# Altium schematic symbol library TMS320F28335GF.SCHLIB: 40 symbols
Pins are listed as number, name and electrical type; pins without a type are passive.

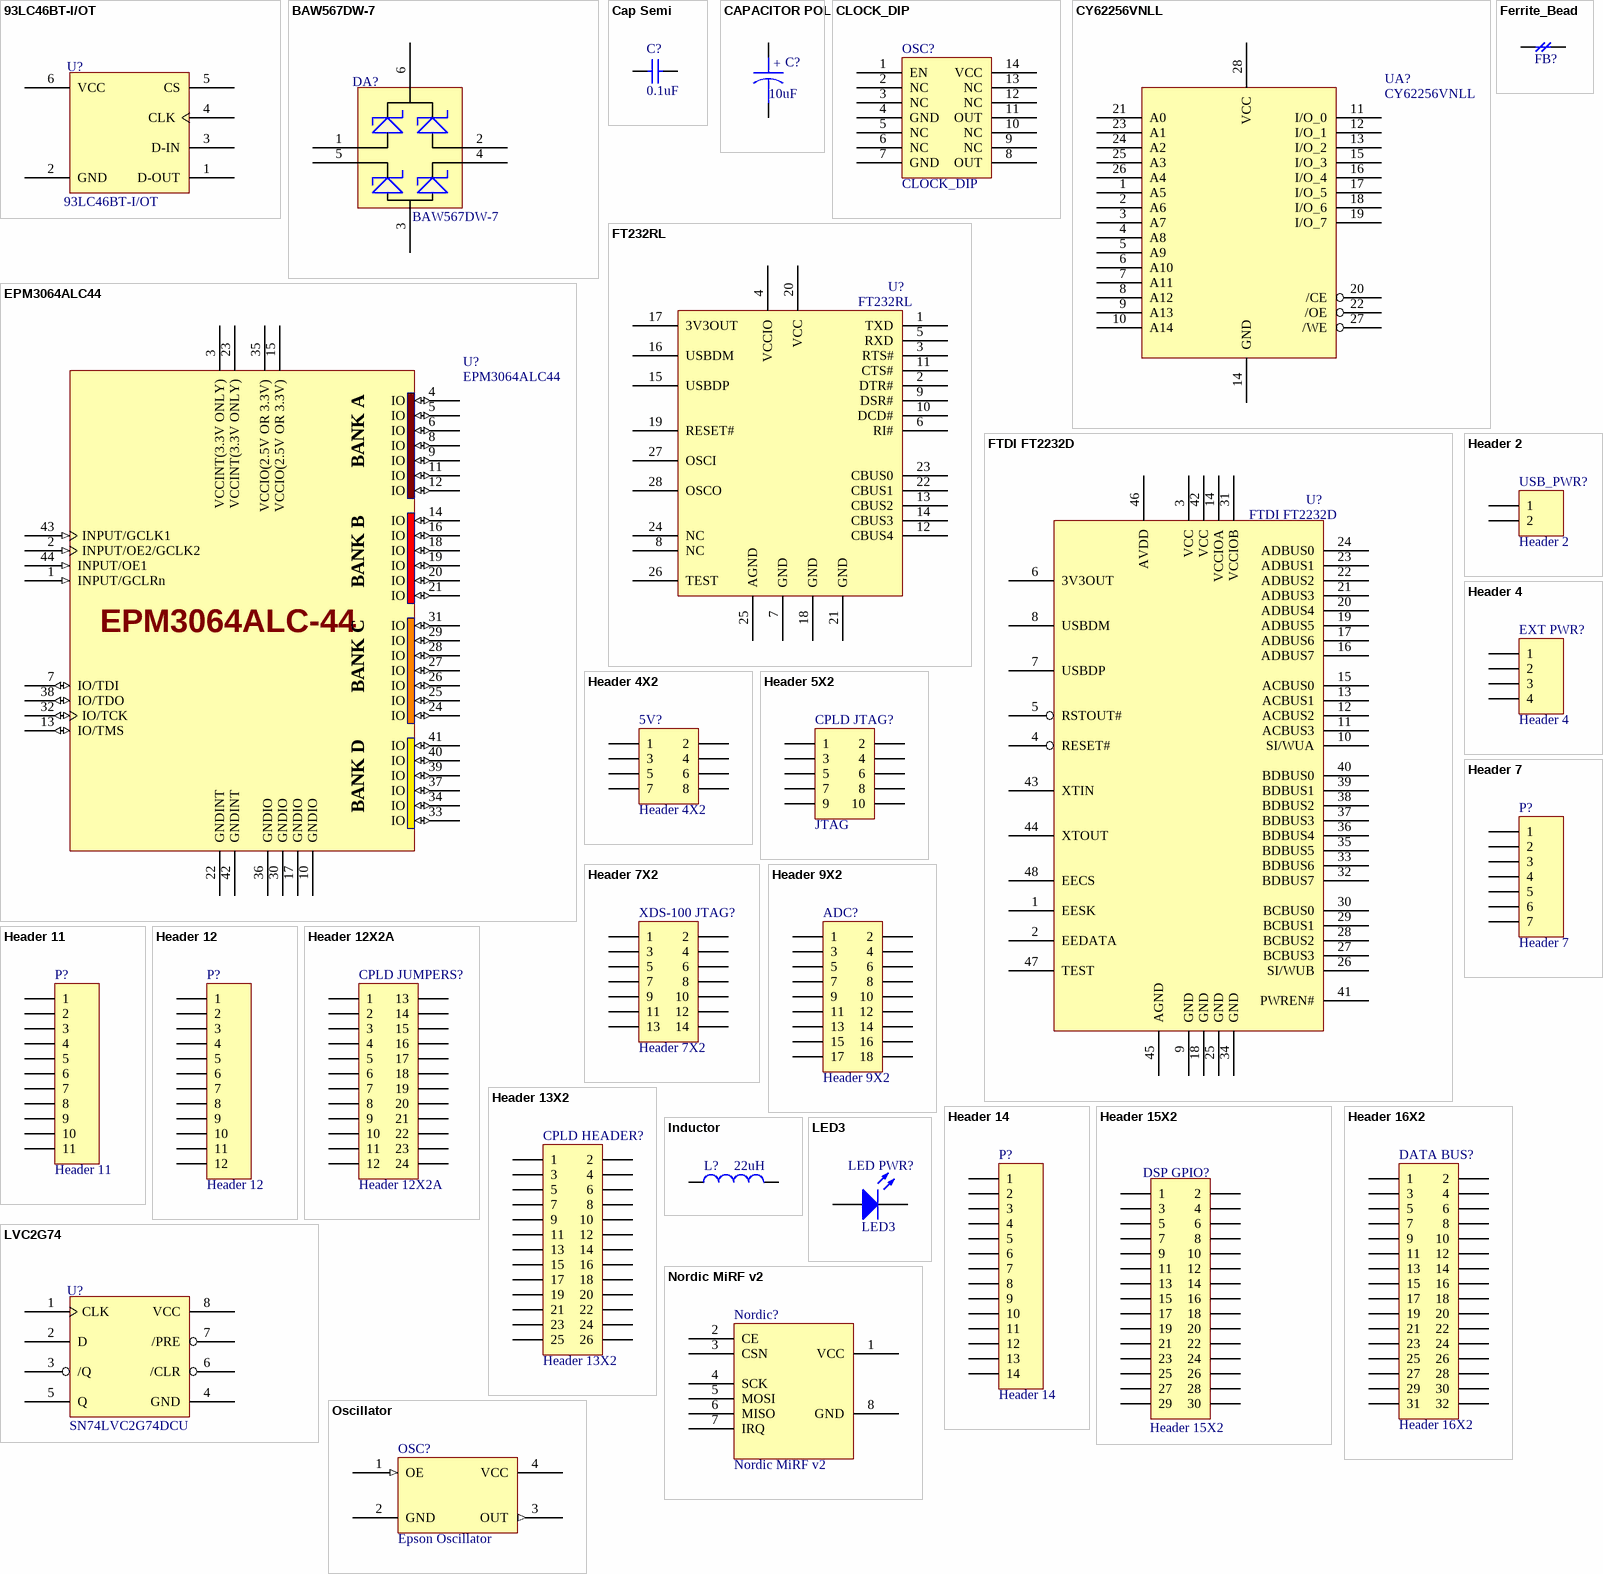
[diagram p0: symbols 93LC46BT-I/OT to Oscillator]

## 93LC46BT-I/OT
designator U?
1K Microwire Compatible Serial EEPROM; Digikey #: 93LC46BT-I/OTCT-ND
footprint 93LC46BT-I/OT (Microchip SOT23-6)
pins: 1 D-OUT, 2 GND, 3 D-IN, 4 CLK, 5 CS, 6 VCC

## BAW567DW-7
designator DA?
QUAD SURFACE MOUNT SWITCHING DIODE ARRAY; Digikey #: BAW567DWDICT-ND
footprint BAW567DW (SOT-363)
pins: 1, 2, 3, 4, 5, 6

## Cap Semi
designator C?  value 0.1uF  (hidden comment: Cap Semi)
Capacitor (Semiconductor SIM Model); Published: 8-Jun-2000; LatestRevisionDate: 17-Jul-2002; LatestRevisionNote: Re-released for DXP Platform.; PackageReference: C1206; Publisher: Altium Limited
footprint C1206 (Chip Capacitor; Body 3.2 x 1.6 mm (LxW typ))
footprint 0805
footprint 1310[0504] (Chip Capacitor; Body 1.2 x 1.0 mm (LxW typ))
footprint 1608[0603] (Chip Capacitor; Body 1.6 x 0.8 mm (LxW typ))
footprint C1210 (Chip Capacitor; Body 3.2 x 2.5 mm (LxW typ))
simulation model CAP (Semiconductor Capacitor)
signal-integrity model Cap Semi
pins: 1, 2

## CAPACITOR POL
designator C?, comment value 10uF  (hidden comment: Pol Cap)
Capacitor Tantalum; Digikey #: 495-2203-1-ND
footprint 3528
pins: 1, 2
text: +

## CLOCK_DIP
designator OSC?
footprint DIP-14
pins: 1 EN, 2 NC, 3 NC, 4 GND, 5 NC, 6 NC, 7 GND, 8 OUT, 9 NC, 10 NC, 11 OUT, 12 NC, 13 NC, 14 VCC

## CY62256VNLL
designator UA?
Cypress SRAM 256KB 3.3V; Digikey #: 428-2001-5-ND; Digikey #: 428-2085-ND
footprint 28-SOIC CY62256VNLL (28-SOIC, Body 17.9x7.5mm (max), Pitch 1.27mm, IPC Low Density)
footprint 28-TSSOP CY62256VNLL (28-TSSOP, Body 8.0x11.8mm (max), Pitch 0.55mm, IPC Low Density)
pins: 1 A5, 2 A6, 3 A7, 4 A8, 5 A9, 6 A10, 7 A11, 8 A12, 9 A13, 10 A14, 11 I/O_0, 12 I/O_1, 13 I/O_2, 14 GND, 15 I/O_3, 16 I/O_4, 17 I/O_5, 18 I/O_6, 19 I/O_7, 20 /CE, 21 A0, 22 /OE, 23 A1, 24 A2, 25 A3, 26 A4, 27 /WE, 28 VCC

## EPM3064ALC44
designator U?
Altera MAX3000A PLCC
footprint PLCC_44
pins: 1 INPUT/GCLRn (in), 2 INPUT/OE2/GCLK2 (in), 3 VCCINT(3.3V ONLY) (power), 4 IO (io), 5 IO (io), 6 IO (io), 7 IO/TDI (io), 8 IO (io), 9 IO (io), 10 GNDIO (power), 11 IO (io), 12 IO (io), 13 IO/TMS (io), 14 IO (io), 15 VCCIO(2.5V OR 3.3V) (power), 16 IO (io), 17 GNDIO (power), 18 IO (io), 19 IO (io), 20 IO (io), 21 IO (io), 22 GNDINT (power), 23 VCCINT(3.3V ONLY) (power), 24 IO (io), 25 IO (io), 26 IO (io), 27 IO (io), 28 IO (io), 29 IO (io), 30 GNDIO (power), 31 IO (io), 32 IO/TCK (io), 33 IO (io), 34 IO (io), 35 VCCIO(2.5V OR 3.3V) (power), 36 GNDIO (power), 37 IO (io), 38 IO/TDO (io), 39 IO (io), 40 IO (io), 41 IO (io), 42 GNDINT (power), 43 INPUT/GCLK1 (in), 44 INPUT/OE1 (in)
text: BANK A; BANK B; EPM3064ALC-44; BANK C; BANK D

## Ferrite_Bead
designator FB?  (value not drawn)
Ferrite Bead; Digikey #: 445-1554-1-ND
footprint CR2012-0805
pins: 1, 2

## FT232RL
designator U?
FTDI FT232RL; Digikey #: 768-1007-1-ND
footprint SSOP28
pins: 1 TXD, 2 DTR#, 3 RTS#, 4 VCCIO, 5 RXD, 6 RI#, 7 GND, 8 NC, 9 DSR#, 10 DCD#, 11 CTS#, 12 CBUS4, 13 CBUS2, 14 CBUS3, 15 USBDP, 16 USBDM, 17 3V3OUT, 18 GND, 19 RESET#, 20 VCC, 21 GND, 22 CBUS1, 23 CBUS0, 24 NC, 25 AGND, 26 TEST, 27 OSCI, 28 OSCO

## FTDI FT2232D
designator U?
Digikey #: 768-1010-1-ND
footprint FTDI FT2232D (LQFP, 48-Leads)
pins: 1 EESK, 2 EEDATA, 3 VCC, 4 RESET#, 5 RSTOUT#, 6 3V3OUT, 7 USBDP, 8 USBDM, 9 GND, 10 SI/WUA, 11 ACBUS3, 12 ACBUS2, 13 ACBUS1, 14 VCCIOA, 15 ACBUS0, 16 ADBUS7, 17 ADBUS6, 18 GND, 19 ADBUS5, 20 ADBUS4, 21 ADBUS3, 22 ADBUS2, 23 ADBUS1, 24 ADBUS0, 25 GND, 26 SI/WUB, 27 BCBUS3, 28 BCBUS2, 29 BCBUS1, 30 BCBUS0, 31 VCCIOB, 32 BDBUS7, 33 BDBUS6, 34 GND, 35 BDBUS5, 36 BDBUS4, 37 BDBUS3, 38 BDBUS2, 39 BDBUS1, 40 BDBUS0, 41 PWREN#, 42 VCC, 43 XTIN, 44 XTOUT, 45 AGND, 46 AVDD, 47 TEST, 48 EECS

## Header 2
designator USB_PWR?
Header, 2-Pin; LatestRevisionDate: 17-Jul-2002; LatestRevisionNote: Re-released for DXP Platform.; Publisher: Altium Limited
footprint HDR1X2 (Connector; Header; 2 Position)
signal-integrity model Connector
pins: 1, 2

## Header 4
designator EXT PWR?
Header, 4-Pin; LatestRevisionDate: 17-Jul-2002; LatestRevisionNote: Re-released for DXP Platform.; Publisher: Altium Limited
footprint HDR1X4 (Connector; Header; 4 Position)
signal-integrity model Connector
pins: 1, 2, 3, 4

## Header 4X2
designator 5V?
Header, 4-Pin, Dual row; LatestRevisionDate: 17-Jul-2002; LatestRevisionNote: Re-released for DXP Platform.; Publisher: Altium Limited
footprint HDR2X4 (Connector; Header; 4x2 Position)
signal-integrity model Connector
pins: 1, 2, 3, 4, 5, 6, 7, 8

## Header 5X2
designator CPLD JTAG?, comment JTAG
Header, 5-Pin, Dual row; Revision: 17-Jul-2002: Re-released for DXP Platform.; Publisher: Altium Limited
footprint HDR2X5 (Connector; Header; 5x2 Position)
signal-integrity model Connector
pins: 1, 2, 3, 4, 5, 6, 7, 8, 9, 10

## Header 7
designator P?
Header, 7-Pin; LatestRevisionDate: 17-Jul-2002; LatestRevisionNote: Re-released for DXP Platform.; Publisher: Altium Limited
footprint HDR1X7 (Connector; Header; 7 Position)
signal-integrity model Connector
pins: 1, 2, 3, 4, 5, 6, 7

## Header 7X2
designator XDS-100 JTAG?
Header, 7-Pin, Dual row; LatestRevisionDate: 17-Jul-2002; LatestRevisionNote: Re-released for DXP Platform.; Publisher: Altium Limited; Digikey #: HRP14H-ND
footprint HDR2X7 (Connector; Header; 7x2 Position)
signal-integrity model Connector
pins: 1, 2, 3, 4, 5, 6, 7, 8, 9, 10, 11, 12, 13, 14

## Header 9X2
designator ADC?
Header, 9-Pin, Dual row; LatestRevisionDate: 17-Jul-2002; LatestRevisionNote: Re-released for DXP Platform.; Publisher: Altium Limited
footprint HDR2X9 (Connector; Header; 9x2 Position)
signal-integrity model Connector
pins: 1, 2, 3, 4, 5, 6, 7, 8, 9, 10, 11, 12, 13, 14, 15, 16, 17, 18

## Header 11
designator P?
Header, 11-Pin; LatestRevisionDate: 17-Jul-2002; LatestRevisionNote: Re-released for DXP Platform.; Publisher: Altium Limited
footprint HDR1X11 (Connector; Header; 11 Position)
signal-integrity model Connector
pins: 1, 2, 3, 4, 5, 6, 7, 8, 9, 10, 11

## Header 12
designator P?
Header, 12-Pin; LatestRevisionDate: 17-Jul-2002; LatestRevisionNote: Re-released for DXP Platform.; Publisher: Altium Limited
footprint HDR1X12 (Connector; Header; 12 Position)
signal-integrity model Connector
pins: 1, 2, 3, 4, 5, 6, 7, 8, 9, 10, 11, 12

## Header 12X2A
designator CPLD JUMPERS?
Header, 12-Pin, Dual row; LatestRevisionDate: 17-Jul-2002; LatestRevisionNote: Re-released for DXP Platform.; Publisher: Altium Limited
footprint HDR2X12_CEN (Connector; Header; 12x2 Position)
signal-integrity model Connector
pins: 1, 2, 3, 4, 5, 6, 7, 8, 9, 10, 11, 12, 13, 14, 15, 16, 17, 18, 19, 20, 21, 22, 23, 24

## Header 13X2
designator CPLD HEADER?
Header, 13-Pin, Dual row; LatestRevisionDate: 17-Jul-2002; LatestRevisionNote: Re-released for DXP Platform.; Publisher: Altium Limited
footprint HDR2X13 (Connector; Header; 13x2 Position)
signal-integrity model Connector
pins: 1, 2, 3, 4, 5, 6, 7, 8, 9, 10, 11, 12, 13, 14, 15, 16, 17, 18, 19, 20, 21, 22, 23, 24, 25, 26

## Header 14
designator P?
Header, 14-Pin; LatestRevisionDate: 17-Jul-2002; LatestRevisionNote: Re-released for DXP Platform.; Publisher: Altium Limited
footprint HDR1X14 (Connector; Header; 14 Position)
signal-integrity model Connector
pins: 1, 2, 3, 4, 5, 6, 7, 8, 9, 10, 11, 12, 13, 14

## Header 15X2
designator DSP GPIO?
Header, 15-Pin, Dual row; LatestRevisionDate: 17-Jul-2002; LatestRevisionNote: Re-released for DXP Platform.; Publisher: Altium Limited
footprint HDR2X15 (Connector; Header; 15x2 Position)
signal-integrity model Connector
pins: 1, 2, 3, 4, 5, 6, 7, 8, 9, 10, 11, 12, 13, 14, 15, 16, 17, 18, 19, 20, 21, 22, 23, 24, 25, 26, 27, 28, 29, 30

## Header 16X2
designator DATA BUS?
Header, 16-Pin, Dual row; LatestRevisionDate: 17-Jul-2002; LatestRevisionNote: Re-released for DXP Platform.; Publisher: Altium Limited
footprint HDR2X16 (Connector; Header; 16x2 Position)
signal-integrity model Connector
pins: 1, 2, 3, 4, 5, 6, 7, 8, 9, 10, 11, 12, 13, 14, 15, 16, 17, 18, 19, 20, 21, 22, 23, 24, 25, 26, 27, 28, 29, 30, 31, 32

## Inductor
designator L?  value 22uH  (hidden comment: Inductor)
Code_IEC: 1005; Published: 8-Jun-2000; LatestRevisionDate: 17-Jul-2002; LatestRevisionNote: Re-released for DXP Platform.; PackageReference: 0402-A; Publisher: Altium Limited; Code_JEITA: 0402; Digikey #: 490-4030-1-ND
footprint 0805
footprint L0603 (Chip Inductor; Body 1.6 x 0.8 mm (LxW typ))
footprint 2012_Chip (2012 Chip; Chip Inductor; Body 2.0 x 1.2 mm (LxW typ))
footprint 2029 (Chip Inductor; Body 2 x 1.2 mm (LxW typ))
footprint 3261 (3216 Chip; Chip Inductor; Body 3.2 x 1.6 mm (LxW typ))
footprint 4564_Chip (4564 Chip; Chip Inductor; Body 4.5 x 6.4 mm (LxW typ))
simulation model INDUCTOR (Inductor)
signal-integrity model Inductor
pins: 1, 2

## LED3
designator LED PWR?
Typical BLUE SiC LED; Published: 8-Jun-2000; LatestRevisionDate: 17-Dec-2003; LatestRevisionNote: PCB Footprint replaced.; DatasheetDocument: 16-Apr-2002; PackageDocument: 16-Apr-2002; PackageReference: 3.5X2.8X1.9; Publisher: Altium Limited
footprint 0805
simulation model LED3 (Diode)
signal-integrity model LED
pins: 1 A, 2 K

## LVC2G74
designator U?, comment SN74LVC2G74DCU
Single Positive-Edge-Triggered D-Type Flip-Flop with Clear and Preset; Digikey #: 296-12755-1-ND
footprint DCU8 (TI Packaging)
pins: 1 CLK, 2 D, 3 /Q, 4 GND, 5 Q, 6 /CLR, 7 /PRE, 8 VCC

## Nordic MiRF v2
designator Nordic?
footprint Nordic MiRF v2
pins: 1 VCC, 2 CE, 3 CSN, 4 SCK, 5 MOSI, 6 MISO, 7 IRQ, 8 GND

## Oscillator
designator OSC?, comment Epson Oscillator
15Mhz Epson Clock; Digikey #: SE2826CT-ND
footprint Oscillator (Epson SG-636PCE)
footprint XTAL_SMT
pins: 1 OE (in), 2 GND (power), 3 OUT (out), 4 VCC (power)

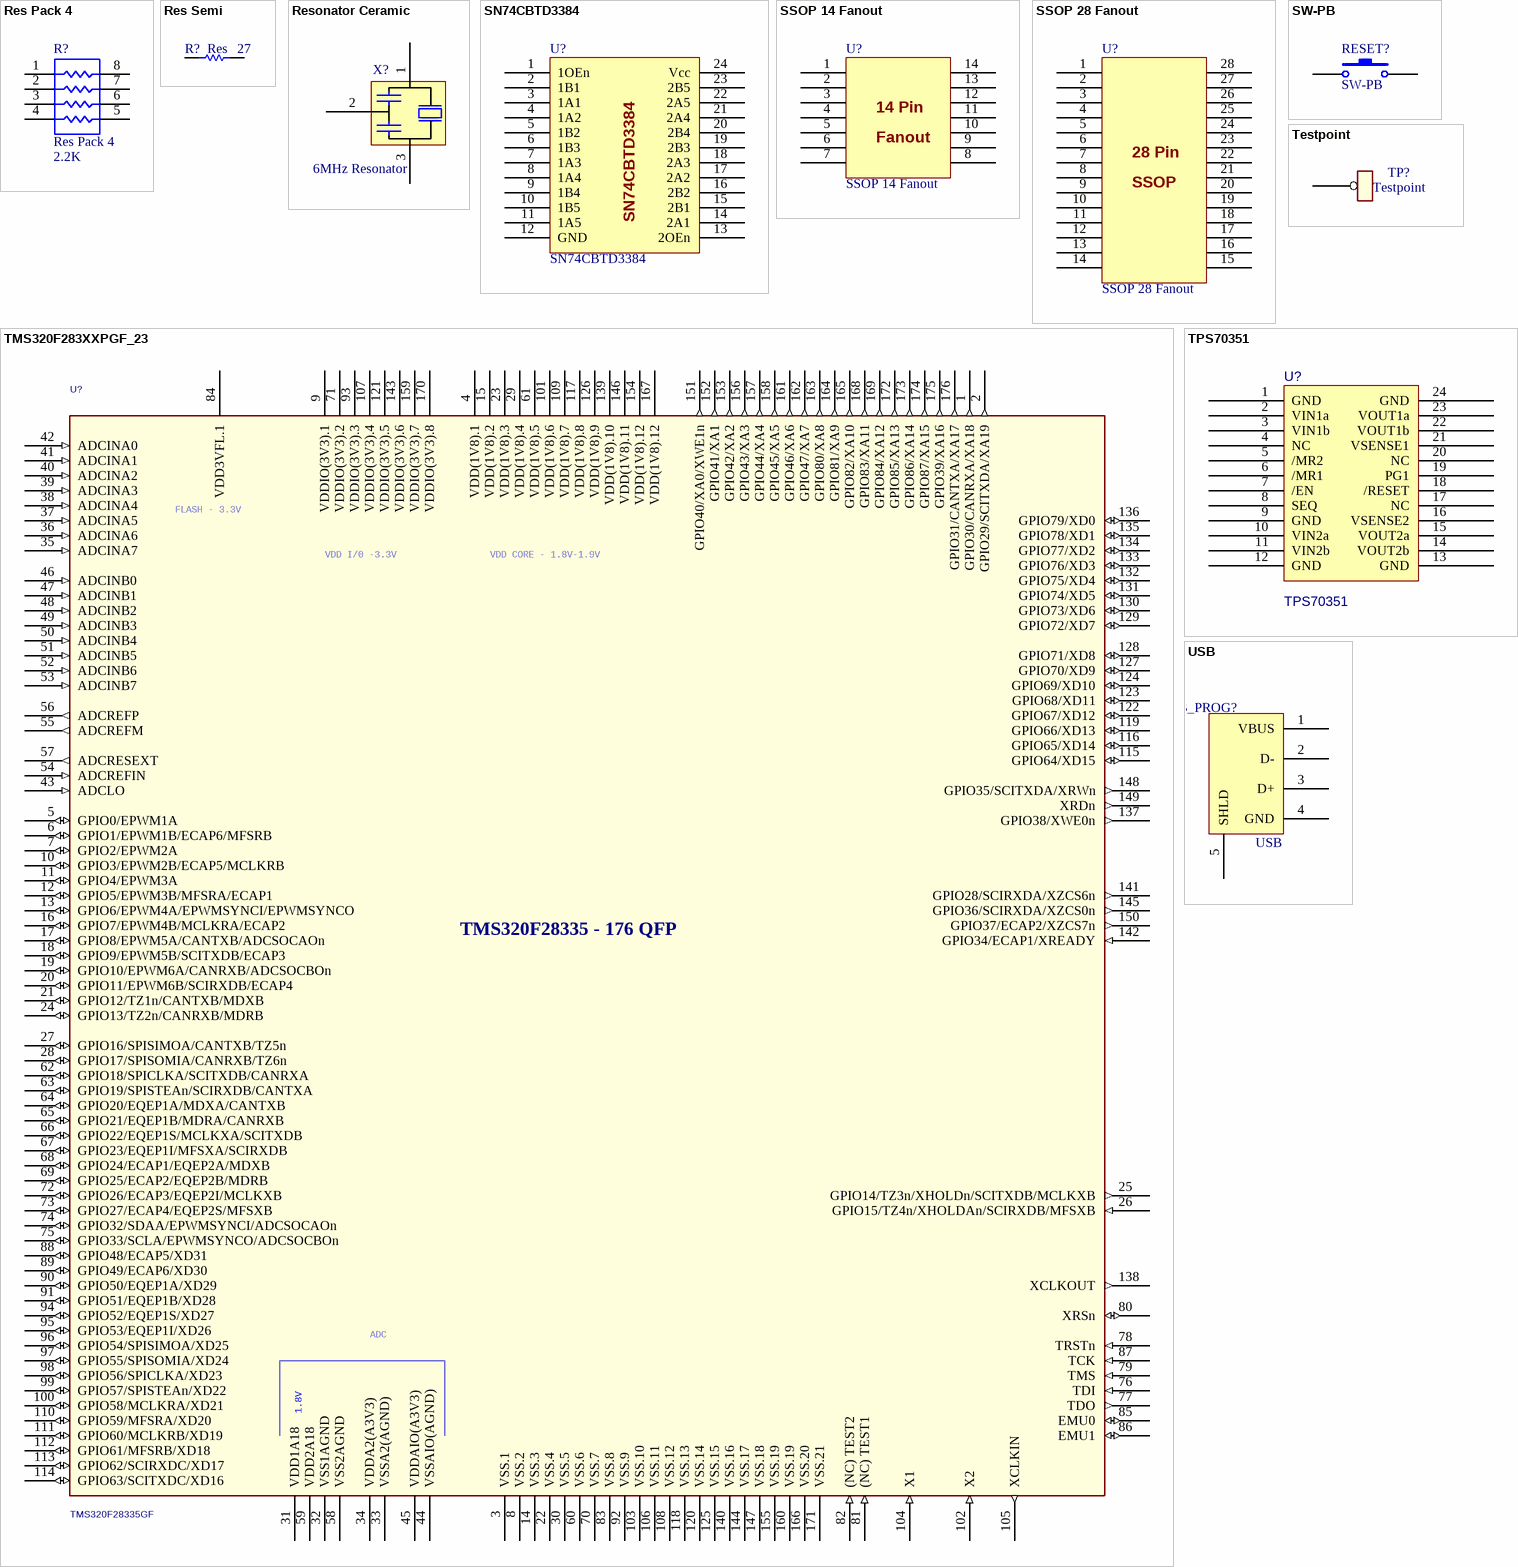
[diagram p1: symbols Res Pack 4 to USB]

## Res Pack 4
designator R?  value 2.2K
4 Isolated Resistor Network; Published: 24-Mar-1999; LatestRevisionDate: 17-Jul-2002; LatestRevisionNote: Re-released for DXP Platform.; PackageReference: SO-16; Publisher: Altium Limited; Digikey #: YC164J-2.2KCT-ND
footprint SO-8 (8 pin Resistor Pack)
simulation model respack_8 (Spice Subcircuit)
pins: 1, 2, 3, 4, 5, 6, 7, 8

## Res Semi
designator R?, comment Res  value 27
Semiconductor Resistor; Published: 8-Jun-2000; LatestRevisionDate: 17-Jul-2002; LatestRevisionNote: Re-released for DXP Platform.; PackageReference: AXIAL-0.5; Publisher: Altium Limited
footprint AXIAL-0.5 (Semiconductor Resistor; 2 Leads)
footprint 0805
footprint 1608[0603] (Chip Resistor; Body 1.6 x 0.8 mm (LxW typ))
footprint 2012[0805] (Chip Resistor; Body 2.0 x 1.3 mm (LxW typ))
footprint 3216[1206] (Chip Resistor; Body 3.2 x 1.6 mm (LxW typ))
simulation model RES (Semiconductor Resistor)
signal-integrity model Res Semi
pins: 1, 2

## Resonator Ceramic
designator X?, comment 6MHz Resonator
Ceramic Resonator; Digikey #: 490-1218-1-ND
footprint 6.00Mhz Resonator (Murate  CSTCR6M00G53Z-R0)
pins: 1, 2 GND, 3

## SN74CBTD3384
designator U?
10-Bit FET Bus Switches With Level Shifting; Digikey #: 296-6482-1-ND
footprint DW-24 (SOIC, 24-Leads)
pins: 1 1OEn, 2 1B1, 3 1A1, 4 1A2, 5 1B2, 6 1B3, 7 1A3, 8 1A4, 9 1B4, 10 1B5, 11 1A5, 12 GND, 13 2OEn, 14 2A1, 15 2B1, 16 2B2, 17 2A2, 18 2A3, 19 2B3, 20 2B4, 21 2A4, 22 2A5, 23 2B5, 24 Vcc

## SSOP 14 Fanout
designator U?
footprint SSOP-14 Fan out (Fan out SSOP 14-pins)
footprint SOIC-14 Fan out (SOIC-14 Fanout)
pins: 1, 2, 3, 4, 5, 6, 7, 8, 9, 10, 11, 12, 13, 14
text: 14 Pin; Fanout

## SSOP 28 Fanout
designator U?
footprint SSOP-28 Fan out (Fan out SSOP 28-pins)
pins: 1, 2, 3, 4, 5, 6, 7, 8, 9, 10, 11, 12, 13, 14, 15, 16, 17, 18, 19, 20, 21, 22, 23, 24, 25, 26, 27, 28
text: 28 Pin; SSOP

## SW-PB
designator RESET?
Switch; Published: 24-Mar-1999; LatestRevisionDate: 17-Jul-2002; LatestRevisionNote: Re-released for DXP Platform.; PackageReference: SPST-2; Publisher: Altium Limited; Digikey #: CKN9119CT-ND
footprint SWITCH_2PAD_SMD
pins: 1, 2

## Testpoint
designator TP?
footprint TestPoint
footprint TestPoint Trough-Hole
pins: 1

## TMS320F283XXPGF_23
designator U?, comment TMS320F28335GF
Texas Instruments F28335; Digikey #: 296-23660-ND
footprint QFP176
footprint intp-ic1-1764-1505_176p
pins: 1 GPIO30/CANRXA/XA18 (out), 2 GPIO29/SCITXDA/XA19 (out), 3 VSS.1 (power), 4 VDD(1V8).1 (power), 5 GPIO0/EPWM1A (io), 6 GPIO1/EPWM1B/ECAP6/MFSRB (io), 7 GPIO2/EPWM2A (io), 8 VSS.2 (power), 9 VDDIO(3V3).1 (power), 10 GPIO3/EPWM2B/ECAP5/MCLKRB (io), 11 GPIO4/EPWM3A (io), 12 GPIO5/EPWM3B/MFSRA/ECAP1 (io), 13 GPIO6/EPWM4A/EPWMSYNCI/EPWMSYNCO (io), 14 VSS.3 (power), 15 VDD(1V8).2 (power), 16 GPIO7/EPWM4B/MCLKRA/ECAP2 (io), 17 GPIO8/EPWM5A/CANTXB/ADCSOCAOn (io), 18 GPIO9/EPWM5B/SCITXDB/ECAP3 (io), 19 GPIO10/EPWM6A/CANRXB/ADCSOCBOn (io), 20 GPIO11/EPWM6B/SCIRXDB/ECAP4 (io), 21 GPIO12/TZ1n/CANTXB/MDXB (io), 22 VSS.4 (power), 23 VDD(1V8).3 (power), 24 GPIO13/TZ2n/CANRXB/MDRB (io), 25 GPIO14/TZ3n/XHOLDn/SCITXDB/MCLKXB (out), 26 GPIO15/TZ4n/XHOLDAn/SCIRXDB/MFSXB (in), 27 GPIO16/SPISIMOA/CANTXB/TZ5n (io), 28 GPIO17/SPISOMIA/CANRXB/TZ6n (io), 29 VDD(1V8).4 (power), 30 VSS.5 (power), 31 VDD1A18 (power), 32 VSS1AGND (power), 33 VSSA2(AGND) (power), 34 VDDA2(A3V3) (power), 35 ADCINA7 (in), 36 ADCINA6 (in), 37 ADCINA5 (in), 38 ADCINA4 (in), 39 ADCINA3 (in), 40 ADCINA2 (in), 41 ADCINA1 (in), 42 ADCINA0 (in), 43 ADCLO (in), 44 VSSAIO(AGND) (power), 45 VDDAIO(A3V3) (power), 46 ADCINB0 (in), 47 ADCINB1 (in), 48 ADCINB2 (in), 49 ADCINB3 (in), 50 ADCINB4 (in), 51 ADCINB5 (in), 52 ADCINB6 (in), 53 ADCINB7 (in), 54 ADCREFIN (in), 55 ADCREFM (out), 56 ADCREFP (out), 57 ADCRESEXT (out), 58 VSS2AGND (power), 59 VDD2A18 (power), 60 VSS.6 (power), 61 VDD(1V8).5 (power), 62 GPIO18/SPICLKA/SCITXDB/CANRXA (io), 63 GPIO19/SPISTEAn/SCIRXDB/CANTXA (io), 64 GPIO20/EQEP1A/MDXA/CANTXB (io), 65 GPIO21/EQEP1B/MDRA/CANRXB (io), 66 GPIO22/EQEP1S/MCLKXA/SCITXDB (io), 67 GPIO23/EQEP1I/MFSXA/SCIRXDB (io), 68 GPIO24/ECAP1/EQEP2A/MDXB (io), 69 GPIO25/ECAP2/EQEP2B/MDRB (io), 70 VSS.7 (power), 71 VDDIO(3V3).2 (power), 72 GPIO26/ECAP3/EQEP2I/MCLKXB (io), 73 GPIO27/ECAP4/EQEP2S/MFSXB (io), 74 GPIO32/SDAA/EPWMSYNCI/ADCSOCAOn (io), 75 GPIO33/SCLA/EPWMSYNCO/ADCSOCBOn (io), 76 TDI (in), 77 TDO (out), 78 TRSTn (in), 79 TMS (in), 80 XRSn (io), 81 (NC) TEST1 (in), 82 (NC) TEST2 (in), 83 VSS.8 (power), 84 VDD3VFL.1 (power), 85 EMU0 (io), 86 EMU1 (io), 87 TCK (in), 88 GPIO48/ECAP5/XD31 (io), 89 GPIO49/ECAP6/XD30 (io), 90 GPIO50/EQEP1A/XD29 (io), 91 GPIO51/EQEP1B/XD28 (io), 92 VSS.9 (power), 93 VDDIO(3V3).3 (power), 94 GPIO52/EQEP1S/XD27 (io), 95 GPIO53/EQEP1I/XD26 (io), 96 GPIO54/SPISIMOA/XD25 (io), 97 GPIO55/SPISOMIA/XD24 (io), 98 GPIO56/SPICLKA/XD23 (io), 99 GPIO57/SPISTEAn/XD22 (io), 100 GPIO58/MCLKRA/XD21 (io), 101 VDD(1V8).6 (power), 102 X2 (in), 103 VSS.10 (power), 104 X1 (in), 105 XCLKIN (out), 106 VSS.11 (power), 107 VDDIO(3V3).4 (power), 108 VSS.12 (power), 109 VDD(1V8).7 (power), 110 GPIO59/MFSRA/XD20 (io), 111 GPIO60/MCLKRB/XD19 (io), 112 GPIO61/MFSRB/XD18 (io), 113 GPIO62/SCIRXDC/XD17 (io), 114 GPIO63/SCITXDC/XD16 (io), 115 GPIO64/XD15 (io), 116 GPIO65/XD14 (io), 117 VDD(1V8).8 (power), 118 VSS.13 (power), 119 GPIO66/XD13 (io), 120 VSS.14 (power), 121 VDDIO(3V3).5 (power), 122 GPIO67/XD12 (io), 123 GPIO68/XD11 (io), 124 GPIO69/XD10 (io), 125 VSS.15 (power), 126 VDD(1V8).9 (power), 127 GPIO70/XD9 (io), 128 GPIO71/XD8 (io), 129 GPIO72/XD7 (io), 130 GPIO73/XD6 (io), 131 GPIO74/XD5 (io), 132 GPIO75/XD4 (io), 133 GPIO76/XD3 (io), 134 GPIO77/XD2 (io), 135 GPIO78/XD1 (io), 136 GPIO79/XD0 (io), 137 GPIO38/XWE0n (out), 138 XCLKOUT (out), 139 VDD(1V8).10 (power), 140 VSS.16 (power), 141 GPIO28/SCIRXDA/XZCS6n (out), 142 GPIO34/ECAP1/XREADY (in), 143 VDDIO(3V3).6 (power), 144 VSS.17 (power), 145 GPIO36/SCIRXDA/XZCS0n (out), 146 VDD(1V8).11 (power), 147 VSS.18 (power), 148 GPIO35/SCITXDA/XRWn (out), 149 XRDn (out), 150 GPIO37/ECAP2/XZCS7n (out), 151 GPIO40/XA0/XWE1n (out), 152 GPIO41/XA1 (out), 153 GPIO42/XA2 (out), 154 VDD(1V8).12 (power), 155 VSS.19 (power), 156 GPIO43/XA3 (out), 157 GPIO44/XA4 (out), 158 GPIO45/XA5 (out), 159 VDDIO(3V3).7 (power), 160 VSS.19 (power), 161 GPIO46/XA6 (out), 162 GPIO47/XA7 (out), 163 GPIO80/XA8 (out), 164 GPIO81/XA9 (out), 165 GPIO82/XA10 (out), 166 VSS.20 (power), 167 VDD(1V8).12 (power), 168 GPIO83/XA11 (out), 169 GPIO84/XA12 (out), 170 VDDIO(3V3).8 (power), 171 VSS.21 (power), 172 GPIO85/XA13 (out), 173 GPIO86/XA14 (out), 174 GPIO87/XA15 (out), 175 GPIO39/XA16 (out), 176 GPIO31/CANTXA/XA17 (out)
text: FLASH - 3.3V; VDD I/0 -3.3V; VDD CORE - 1.8V-1.9V; TMS320F28335 - 176 QFP; ADC; 1.8V

## TPS70351
designator U?
IC 3.3V/1.8V LDO REG 24-HTSSOP; Digikey #: 296-8024-5-ND
footprint PWP24
footprint PW24
pins: 1 GND, 2 VIN1a, 3 VIN1b, 4 NC, 5 /MR2, 6 /MR1, 7 /EN, 8 SEQ, 9 GND, 10 VIN2a, 11 VIN2b, 12 GND, 13 GND, 14 VOUT2b, 15 VOUT2a, 16 VSENSE2, 17 NC, 18 /RESET, 19 PG1, 20 NC, 21 VSENSE1, 22 VOUT1b, 23 VOUT1a, 24 GND

## USB
designator USB_PROG?
Digikey #: 151-1121-ND
footprint USB_TypeB_RightAngle
pins: 1 VBUS, 2 D-, 3 D+, 4 GND, 5 SHLD